# EAGLE library part C8051F34 (library X893)
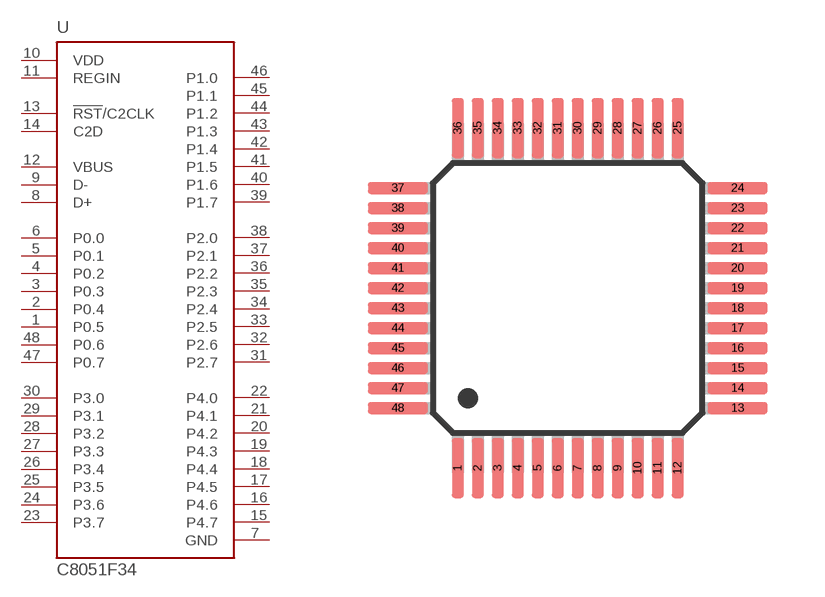
[diagram p46: symbol with the pads of TQFP48; footprint TQFP48]

Designator prefix U

## C8051F340/344-GQ  [TQFP48]
1  P0.5
2  P0.4
3  P0.3
4  P0.2
5  P0.1
6  P0.0
7  GND  pwr
8  D+
9  D-
10  VDD  pwr
11  REGIN  pas
12  VBUS  pas
13  !RST!/C2CLK
14  C2D
15  P4.7
16  P4.6
17  P4.5
18  P4.4
19  P4.3
20  P4.2
21  P4.1
22  P4.0
23  P3.7
24  P3.6
25  P3.5
26  P3.4
27  P3.3
28  P3.2
29  P3.1
30  P3.0
31  P2.7
32  P2.6
33  P2.5
34  P2.4
35  P2.3
36  P2.2
37  P2.1
38  P2.0
39  P1.7
40  P1.6
41  P1.5
42  P1.4
43  P1.3
44  P1.2
45  P1.1
46  P1.0
47  P0.7
48  P0.6

## Footprint TQFP48 (pad centres in mm)
Thin Quad Flat Pack
smd 0.3 x 1.5: 1 -2.75,-4.25; 2 -2.25,-4.25; 3 -1.75,-4.25; 4 -1.25,-4.25; 5 -0.75,-4.25; 6 -0.25,-4.25; 7 0.25,-4.25; 8 0.75,-4.25; 9 1.25,-4.25; 10 1.75,-4.25; 11 2.25,-4.25; 12 2.75,-4.25; 25 2.75,4.25; 26 2.25,4.25; 27 1.75,4.25; 28 1.25,4.25; 29 0.75,4.25; 30 0.25,4.25; 31 -0.25,4.25; 32 -0.75,4.25; 33 -1.25,4.25; 34 -1.75,4.25; 35 -2.25,4.25; 36 -2.75,4.25
smd 1.5 x 0.3: 13 4.25,-2.75; 14 4.25,-2.25; 15 4.25,-1.75; 16 4.25,-1.25; 17 4.25,-0.75; 18 4.25,-0.25; 19 4.25,0.25; 20 4.25,0.75; 21 4.25,1.25; 22 4.25,1.75; 23 4.25,2.25; 24 4.25,2.75; 37 -4.25,2.75; 38 -4.25,2.25; 39 -4.25,1.75; 40 -4.25,1.25; 41 -4.25,0.75; 42 -4.25,0.25; 43 -4.25,-0.25; 44 -4.25,-0.75; 45 -4.25,-1.25; 46 -4.25,-1.75; 47 -4.25,-2.25; 48 -4.25,-2.75